# EAGLE library part PT6311 (library Drivers)
PT6311 VFD Driver PT6311 is a Vacuum Fluorescent Display (VFD) Controller driven on a 1/8 to 1/16 duty factor housed in 52-pin plastic QFP Package. Twelve segment output lines, 8 grid output lines, 8 segment/grid output drive lines, one display memory, control circuit, key scan circuit are all incorporated into a single chip to build a highly reliable peripheral device for a single chip micro computer. Serial data is fed to PT6311 via a three-line serial interface.
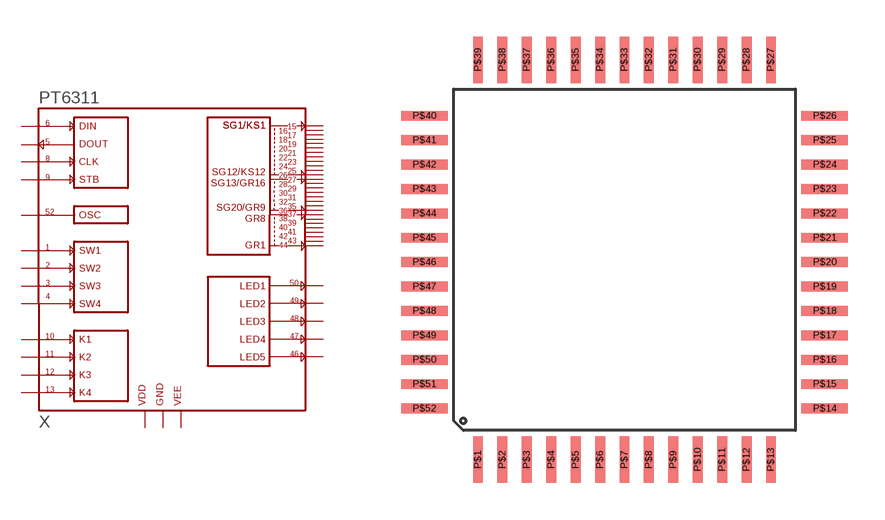
[diagram p0: symbol with the pads of QFP52; footprint QFP52]

Designator prefix X

## PT6311  [QFP52]
P$1  SW1
P$2  SW2
P$3  SW3
P$4  SW4
P$5  DOUT
P$6  DIN
P$8  CLK
P$9  STB
P$10  K1
P$11  K2
P$12  K3
P$13  K4
P$14  VDD
P$15  SG1/KS1
P$16  SG2/KS2
P$17  SG3/KS3
P$18  SG4/KS4
P$19  SG5/KS5
P$20  SG6/KS6
P$21  SG7/KS7
P$22  SG8/KS8
P$23  SG9/KS9
P$24  SG10/KS10
P$25  SG11/KS11
P$26  SG12/KS12
P$27  SG13/GR16
P$28  SG14/GR15
P$29  SG15/GR14
P$30  SG16/GR13
P$31  SG17/GR12
P$32  SG18/GR11
P$33  VDD
P$34  VEE
P$35  SG19/GR10
P$36  SG20/GR9
P$37  GR8
P$38  GR7
P$39  GR6
P$40  GR5
P$41  GR4
P$42  GR3
P$43  GR2
P$44  GR1
P$45  VDD
P$46  LED5
P$47  LED4
P$48  LED3
P$49  LED2
P$50  LED1
P$51  GND
P$52  OSC

## Footprint QFP52 (pad centres in mm)
smd 0.406 x 1.9: P$1 -6,-8.1; P$2 -5,-8.1; P$3 -4,-8.1; P$4 -3,-8.1; P$5 -2,-8.1; P$6 -1,-8.1; P$7 0,-8.1; P$8 1,-8.1; P$9 2,-8.1; P$10 3,-8.1; P$11 4,-8.1; P$12 5,-8.1; P$13 6,-8.1; P$27 6,8.3; P$28 5,8.3; P$29 4,8.3; P$30 3,8.3; P$31 2,8.3; P$32 1,8.3; P$33 0,8.3; P$34 -1,8.3; P$35 -2,8.3; P$36 -3,8.3; P$37 -4,8.3; P$38 -5,8.3; P$39 -6,8.3
smd 1.9 x 0.406: P$14 8.2,-6; P$15 8.2,-5; P$16 8.2,-4; P$17 8.2,-3; P$18 8.2,-2; P$19 8.2,-1; P$20 8.2,0; P$21 8.2,1; P$22 8.2,2; P$23 8.2,3; P$24 8.2,4; P$25 8.2,5; P$26 8.2,6; P$40 -8.2,6; P$41 -8.2,5; P$42 -8.2,4; P$43 -8.2,3; P$44 -8.2,2; P$45 -8.2,1; P$46 -8.2,0; P$47 -8.2,-1; P$48 -8.2,-2; P$49 -8.2,-3; P$50 -8.2,-4; P$51 -8.2,-5; P$52 -8.2,-6